# Altium footprint library Wampler.PcbLib: 50 footprints (part 4 of 4)
Each footprint in its own frame and in the unit in brackets; x right, y up, seen from the top. Pads: shape width x height; smd on the part's side, far side on the other; paste and mask are expansions set on the pad; w line width, h text height; cw(c..) or ccw(c..) is an arc to the next point about the centre after c.
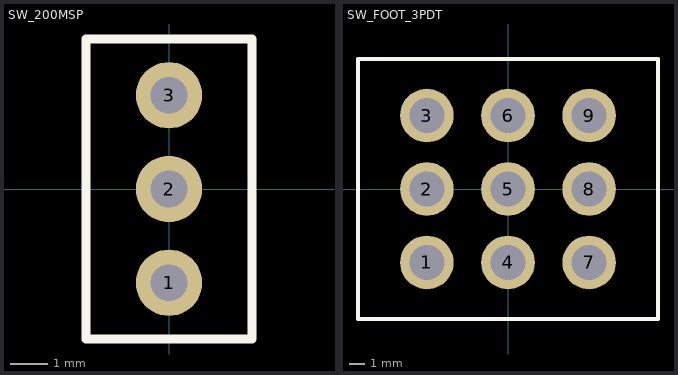
[diagram p3: the footprints below, top view; thin cyan lines are the x and y axes]

## SW_200MSP [mm]
pads (3):
  round 1.8 hole 1: 1(0,-2.54) 2(0,0) 3(0,2.54)
Top Overlay:
  lines w0.254: -2.25,-4.065 2.25,-4.065 2.25,4.065 -2.25,4.065 -2.25,-4.065
3D body "200MSPxT2B1M2xE.stp": height 19.59, standoff -3.29, extent -3,-4.065 3,4.065

## SW_FOOT_3PDT [mm]
pads (9):
  round 3.5 hole 2.3: 1(-5.3,-4.8) 2(-5.3,0) 3(-5.3,4.8) 4(0,-4.8) 5(0,0) 6(0,4.8) 7(5.3,-4.8) 8(5.3,0) 9(5.3,4.8)
Top Overlay:
  lines w0.254: -9.8,-8.5 -9.8,8.5 9.8,8.5 9.8,-8.5 -9.8,-8.5
3D body "FS57003PLT2B2M2QE.stp": height 38.22, standoff -2.98, extent -9.8,-8.5 9.8,8.5